# Altium schematic symbol library samsung-ddr.SchLib: 1 symbol
Pins are listed as number, name and electrical type; pins without a type are passive.

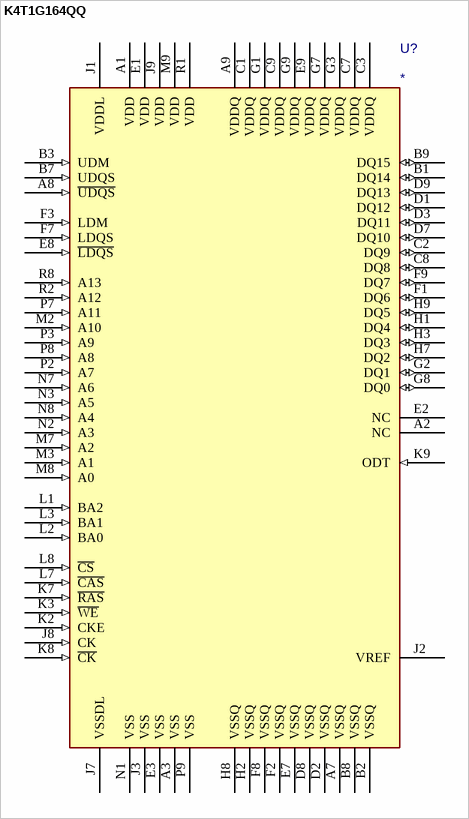
[diagram p0: symbol K4T1G164QQ]

## K4T1G164QQ
designator U?
footprint BGA84C80P15X9_1300X900X110 (BGA, 84-Leads, Body 13.0x9.0mm,  Pitch 0.80mm)
pins: A1 VDD (power), A2 NC, A3 VSS (power), A7 VSSQ (power), A8 ~{UDQS} (in), A9 VDDQ (power), B1 DQ14 (io), B2 VSSQ (power), B3 UDM (in), B7 UDQS (in), B8 VSSQ (power), B9 DQ15 (io), C1 VDDQ (power), C2 DQ9 (io), C3 VDDQ (power), C7 VDDQ (power), C8 DQ8 (io), C9 VDDQ (power), D1 DQ12 (io), D2 VSSQ (power), D3 DQ11 (io), D7 DQ10 (io), D8 VSSQ (power), D9 DQ13 (io), E1 VDD (power), E2 NC, E3 VSS (power), E7 VSSQ (power), E8 ~{LDQS} (in), E9 VDDQ (power), F1 DQ6 (io), F2 VSSQ (power), F3 LDM (in), F7 LDQS (in), F8 VSSQ (power), F9 DQ7 (io), G1 VDDQ (power), G2 DQ1 (io), G3 VDDQ (power), G7 VDDQ (power), G8 DQ0 (io), G9 VDDQ (power), H1 DQ4 (io), H2 VSSQ (power), H3 DQ3 (io), H7 DQ2 (io), H8 VSSQ (power), H9 DQ5 (io), J1 VDDL (power), J2 VREF (power), J3 VSS (power), J7 VSSDL (power), J8 CK (in), J9 VDD (power), K2 CKE (in), K3 ~{WE} (in), K7 ~{RAS} (in), K8 ~{CK} (in), K9 ODT (in), L1 BA2 (in), L2 BA0 (in), L3 BA1 (in), L7 ~{CAS} (in), L8 ~{CS} (in), M2 A10 (in), M3 A1 (in), M7 A2 (in), M8 A0 (in), M9 VDD (power), N1 VSS (power), N2 A3 (in), N3 A5 (in), N7 A6 (in), N8 A4 (in), P2 A7 (in), P3 A9 (in), P7 A11 (in), P8 A8 (in), P9 VSS (power), R1 VDD (power), R2 A12 (in), R8 A13 (in)